# Altium footprint library R_WH50.PcbLib: 1 footprints
Each footprint in its own frame and in the unit in brackets; x right, y up, seen from the top. Pads: shape width x height; smd on the part's side, far side on the other; paste and mask are expansions set on the pad; w line width, h text height; cw(c..) or ccw(c..) is an arc to the next point about the centre after c.
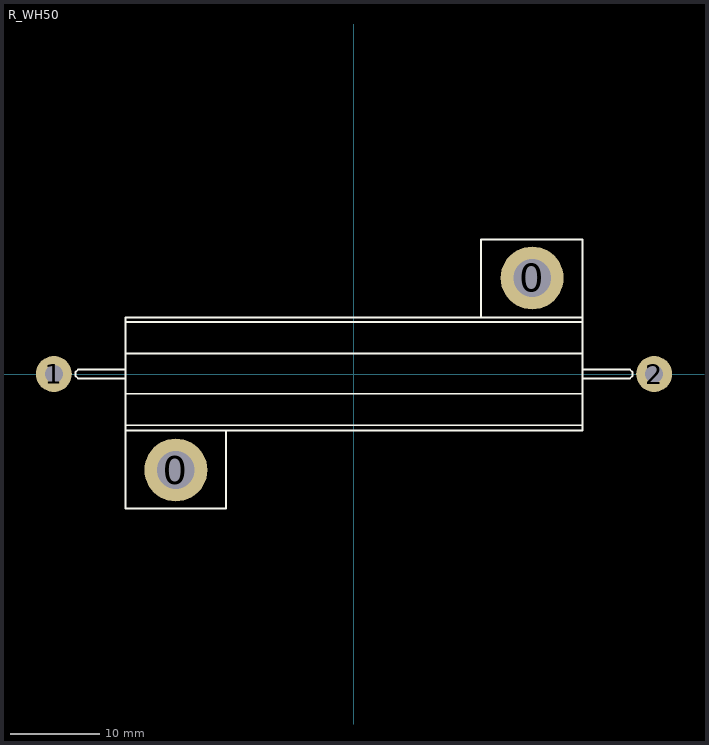
[diagram p0: the footprint, top view; thin cyan lines are the x and y axes]

## R_WH50 [mil]
pads (4):
  round 276 hole 165: 0(-781.5,-421.26) 0(781.5,421.26)
  round 158 hole 79: 1(-1316.93,0) 2(1316.93,0)
Top Overlay:
  lines w7.87: -1001.97,-248.03 -561.02,-248.03 ; -1001.97,-224.41 1001.97,-224.41 ; -1001.97,-86.61 1001.97,-86.61 ; -1001.97,-19.69 -1210.63,-19.69 -1222.44,-7.87 -1222.44,7.87 -1210.63,19.68 -1001.97,19.68 ; -1001.97,90.55 1001.97,90.55 ; -1001.97,228.35 1001.97,228.35 ; -1001.97,244.09 -1001.97,-590.55 -561.02,-590.55 -561.02,-248.03 ; -1001.97,248.03 557.09,248.03 ; 1001.97,-19.68 1210.63,-19.68 1222.44,-7.87 1222.44,7.87 1210.63,19.69 1001.97,19.69 ; 1001.97,248.03 557.09,248.03 ; -561.02,-248.03 1001.97,-248.03 1001.97,590.55 557.09,590.55 557.09,248.03